# Altium schematic symbol library converter.SchLib: 61 symbols (part 3 of 3)
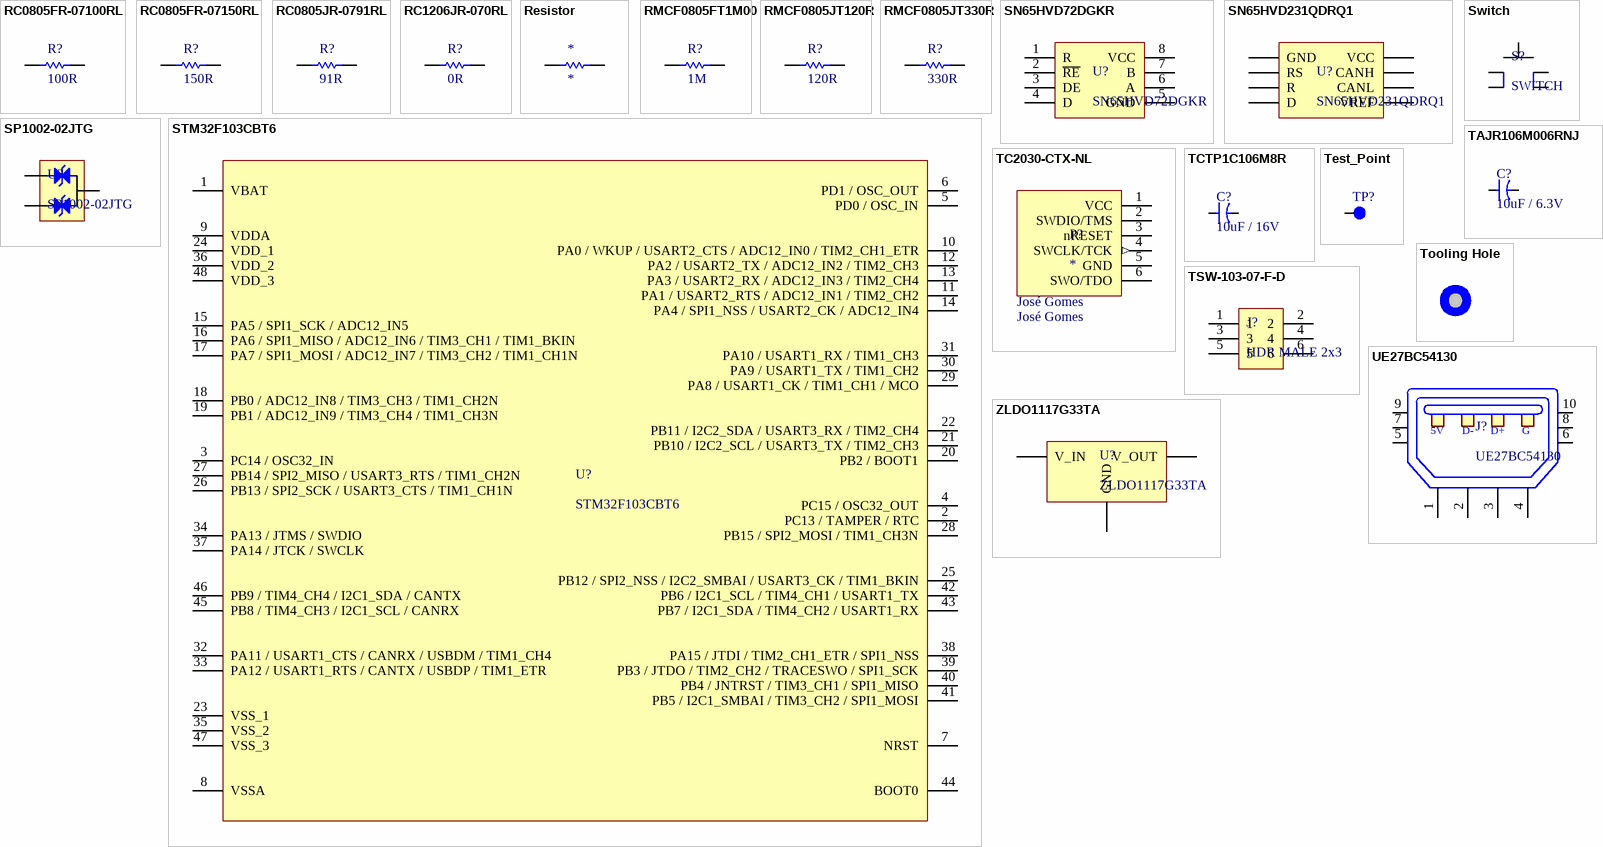
[diagram p3: symbols RC0805FR-07100RL to ZLDO1117G33TA]

## TC2030-CTX-NL
designator P?  .PCBChecked: José Gomes  (no BOM)
6 pin Tag-Connect; .SCHChecked: José Gomes
footprint TC2030-CTX-NL
pins: 1 VCC, 2 SWDIO/TMS, 3 nRESET, 4 SWCLK/TCK (out), 5 GND, 6 SWO/TDO

## TCTP1C106M8R
designator C?, comment 10uF / 16V
TAL CAP - 10UF 16V 0805 +/- 20%; Manufacturer: Rohm; Manufacturer Part Number: TCTP1C106M8R; ESR (Equivalent Series Resistance): 6R; Supplier 1: Digi-Key; RoHS: Yes; Category: Tantalum Capacitors; Stock 1: 134422; Pricing 1: 1=0,86000, 10=0,63300, 50=0,50640, 100=0,43400, 500=0,34360, 1000=0,28934 (USD); Mount: Surface Mount; Case/Package: 0805; Case Code (Metric): 2012; Case Code (Imperial): 0805; Min Operating Temperature: -55°C; Max Operating Temperature: 125°C; Package Quantity: 3000; Capacitance: 10uF; Voltage Rating: 16V; Tolerance: 20%; Packaging: Tape and Reel; Voltage: 16V; Features: General Purpose; Series: TCT; Length: 0.079inch; Width: 0.049inch; Height - Seated (Max): 0.047inch; Lead Free: Lead Free; RoHS Compliant: Yes; ComponentLink1URL: https://datasheet.ciiva.com/259/tct-p-259243.pdf?src-supplier=Digi-Key; ComponentLink1Description: https://datasheet.ciiva.com/259/tct-p-259243.pdf?src-supplier=Digi-Key; ComponentLink2URL: https://datasheet.ciiva.com/259/tct-p-259244.pdf?src-supplier=Digi-Key; ComponentLink2Description: https://datasheet.ciiva.com/259/tct-p-259244.pdf?src-supplier=Digi-Key; ComponentLink3URL: https://datasheet.ciiva.com/259/tct-p-259245.pdf?src-supplier=Digi-Key; ComponentLink3Description: https://datasheet.ciiva.com/259/tct-p-259245.pdf?src-supplier=Digi-Key; Supplier Part Number 1: 511-1683-1-ND
footprint CT0805
pins: 1, 2

## Test_Point
designator TP?, comment TestPoint  (value not drawn)  (no BOM)
MECH - Test Points
footprint Test Point
pins: 1

## Tooling Hole
designator TH?  (value not drawn)  (no BOM)
MECH - Tooling Holes
footprint Tooling Hole

## TSW-103-07-F-D
designator J?, comment HDR MALE 2x3
HDR MALE 2x3 100mil; Manufacturer: Samtec; Manufacturer Part Number: TSW-103-07-F-D; Number of Contacts: 6; Max Current Rating: 7.6A; Max Voltage Rating (AC): 550V; Connector Type: Male Pin; Pitch: 2.54mm; Row Spacing: 0.1inch; Supplier 1: Digi-Key; RoHS: Yes; Category: Headers and Wire Housings; Stock 1: 12857; Pricing 1: 1=0,71000, 10=0,66700, 100=0,51110, 500=0,44440, 1000=0,36663, 5000=0,32219, 10000=0,29997 (USD); Mount: Through Hole; Contact Plating: Gold; Contact Material: Bronze; Housing Color: Black; Housing Material: Polyester; Color: Black; Min Operating Temperature: -55°C; Max Operating Temperature: 125°C; Packaging: Bulk; Number of Rows: 2; Termination: Solder; Gender: Male; Orientation: Straight; Number of Positions: 6; Series: TSW; Contact Type: Male Pin; Length: 7.62mm; Depth: 5.08mm; Contact Mating Length: 0.23inch; Radiation Hardening: No; RoHS Compliant: Yes; REACH SVHC: No SVHC; ComponentLink1URL: https://datasheet.ciiva.com/739/tsw-xxx-xx-xxx-x-xx-xxx-mkt-739891.pdf?src-supplier=Digi-Key; ComponentLink1Description: https://datasheet.ciiva.com/739/tsw-xxx-xx-xxx-x-xx-xxx-mkt-739891.pdf?src-supplier=Digi-Key; ComponentLink2URL: https://datasheet.ciiva.com/16722/htsw-th-16722939.pdf?src-supplier=Avnet+Europe; ComponentLink2Description: https://datasheet.ciiva.com/16722/htsw-th-16722939.pdf?src-supplier=Avnet+Europe; Supplier Part Number 1: SAM10846-ND
footprint HDR MALE 2x3
pins: 1, 2, 3, 4, 5, 6

## UE27BC54130
designator J?
CONN USB RECPT B 2.0; Manufacturer: Amphenol Commercial; Number of Terminals/Pins: 4; Gender: Receptacle; Number of Ports: 1; Insulation Resistance: 1GR; Pitch: 2.5mm; Supplier 1: Digi-Key; Manufacturer Part Number: UE27BC54130; RoHS: Yes; Category: RF / Coaxial Connectors; Stock 1: 8145; Pricing 1: 1=1,15000, 10=1,01500, 25=0,95560, 40=0,91575, 120=0,87592, 240=0,79633, 480=0,71669, 960=0,63705, 2400=0,57733 (USD); Mount: Through Hole,Horizontal; Contact Plating: Gold; Color: Black; Contact Material: Bronze; Housing Material: Polybutylene; Termination: Solder; Packaging: Bulk; Connector Type: USB; Number of Contacts: 4; Orientation: Right Angle; Package Quantity: 3000; Series: UE27; Length: 12.04mm; Depth: 16.3mm; Radiation Hardening: No; ComponentLink1URL: https://datasheet.ciiva.com/851/ue27bcx4xxx-851809.pdf?src-supplier=Digi-Key; ComponentLink1Description: https://datasheet.ciiva.com/851/ue27bcx4xxx-851809.pdf?src-supplier=Digi-Key; ComponentLink2URL: https://datasheet.ciiva.com/10945/ue27bcx4xxx-10945210.pdf?src-supplier=Avnet; ComponentLink2Description: https://datasheet.ciiva.com/10945/ue27bcx4xxx-10945210.pdf?src-supplier=Avnet; ComponentLink3URL: https://datasheet.ciiva.com/16668/ue27bcx4xxx-16668218.pdf?src-supplier=Avnet+Europe; ComponentLink3Description: https://datasheet.ciiva.com/16668/ue27bcx4xxx-16668218.pdf?src-supplier=Avnet+Europe; Supplier Part Number 1: UE27BC54130-ND
footprint UE27BC54130
pins: 1, 2, 3, 4, 5, 6, 7, 8, 9, 10
text: 5V; D-; D+; G

## ZLDO1117G33TA
designator U?
IC REG LDO 3.3V 1A SOT223; Manufacturer: Diodes Zetex; Number of Outputs: 1; Min Input Voltage: 2.7V; Max Input Voltage: 18V; Max Power Dissipation: 15W; Polarity: Positive; Quiescent Current: 10mA; Accuracy: 2%; Output Type: Fixed; Dropout Voltage: 1.11V; Min Current Limit: 1.1A; Supplier 1: Digi-Key; Manufacturer Part Number: ZLDO1117G33TA; RoHS: Yes; Category: Voltage Regulators - Linear; Stock 1: 575635; Pricing 1: 1=0,51000, 10=0,43700, 25=0,40800, 100=0,32650, 250=0,30316, 500=0,25652 (USD); Mount: Surface Mount; Case/Package: SOT-223; Number of Pins: 3; Weight: 0.000282oz; Min Operating Temperature: -40°C; Max Operating Temperature: 125°C; Output Voltage: 3.3V; Max Output Current: 1A; Output Current: 1A; Packaging: Tape and Reel; Nominal Output Voltage: 3.3V; Package Quantity: 1000; Tolerance: 2%; Number of Regulators: 1; Reference Voltage: 3.3V; Min Output Voltage: 3.3V; Power Dissipation: 15W; Output Voltage Accuracy: 2%; Series: ZLDO1117; Length: 6.7mm; Width: 3.7mm; Height: 1.7mm; Radiation Hardening: No; REACH SVHC: No SVHC; Lead Free: Lead Free; RoHS Compliant: Yes; ComponentLink1URL: https://datasheet.ciiva.com/8078/608833-8078233.pdf?src-supplier=Element14; ComponentLink1Description: https://datasheet.ciiva.com/8078/608833-8078233.pdf?src-supplier=Element14; Supplier Part Number 1: ZLDO1117G33DICT-ND
footprint ZLDO1117G33TA
pins: 1 V_IN, 2 V_OUT, 3 GND